# Altium schematic symbol library SN65HVD1050DR.SchLib: 1 symbol
Pins are listed as number, name and electrical type; pins without a type are passive.

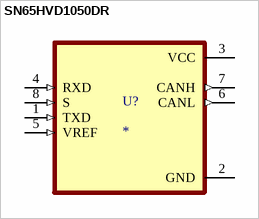
[diagram p0: symbol SN65HVD1050DR]

## SN65HVD1050DR
designator U?
High-Speed CAN Transceiver with Silent Mode 8-SOIC -40 to 125; MP: SN65HVD1050DR; MF: Texas Instruments; Purchase-URL: https://pricing.snapeda.com/search/part/SN65HVD1050DR/?ref=eda; Digi-Key_Part_Number: 296-26335-1-ND; Check_prices: https://www.snapeda.com/parts/SN65HVD1050DR/Texas%20Instruments/view-part/1043210/?ref=eda; SnapEDA_Link: https://www.snapeda.com/parts/SN65HVD1050DR/Texas%20Instruments/view-part/1043210/?ref=snap; Value: *; Package: SOIC-8 Texas Instruments
footprint SOIC127P599X175-8N
pins: 1 TXD (in), 2 GND (power), 3 VCC (power), 4 RXD (in), 5 VREF (in), 6 CANL (out), 7 CANH (out), 8 S (in)